# Altium schematic symbol library MyComponents.SchLib: 1 symbol
Pins are listed as number, name and electrical type; pins without a type are passive.

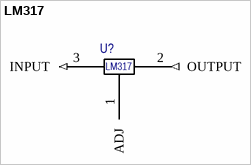
[diagram p0: symbol LM317]

## LM317
designator U?  (value not drawn)
footprint TO-220-3
pins: 1 ADJ, 2 OUTPUT (out), 3 INPUT (in)